# Altium schematic symbol library VN7040AJTR.SchLib: 1 symbol
Pins are listed as number, name and electrical type; pins without a type are passive.

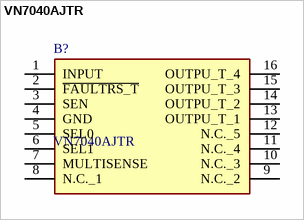
[diagram p0: symbol VN7040AJTR]

## VN7040AJTR
designator B?
Power Switch ICs - Power Distribution High-side driver with MultiSense analog feedback for automotive applications; Manufacturer_Name: STMicroelectronics; Geometry.Height: 1.7mm; Mouser Part Number: 511-VN7040AJTR; Mouser Price/Stock: https://www.mouser.co.uk/ProductDetail/STMicroelectronics/VN7040AJTR?qs=pZIKbki37prK%252Bd3HC1Q5kg%3D%3D; Manufacturer_Part_Number: VN7040AJTR; Datasheet Link: https://componentsearchengine.com/Datasheets/1/VN7040AJTR.pdf
footprint SOP50P600X170-16N
pins: 1 INPUT, 2 ~{FAULTRS_T}, 3 SEN, 4 GND, 5 SEL0, 6 SEL1, 7 MULTISENSE, 8 N.C._1, 9 N.C._2, 10 N.C._3, 11 N.C._4, 12 N.C._5, 13 OUTPU_T_1, 14 OUTPU_T_2, 15 OUTPU_T_3, 16 OUTPU_T_4